# Altium schematic symbol library TSAL4400.SchLib: 1 symbol
Pins are listed as number, name and electrical type; pins without a type are passive.

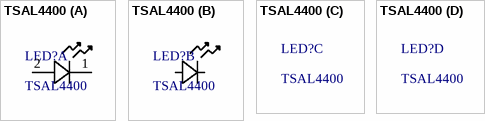
[diagram p0: symbol TSAL4400]

## TSAL4400
designator LED?
Description; Manufacturer_Name: Vishay Semiconductors; Type: LED Indication; Copyright: Copyright (C) 2025 Ultra Librarian. All rights reserved.; Manufacturer_Part_Number: TSAL4400
footprint LED_RADIAL_TSAL4400
part A pins: 1 CAHTODE, 2 ANODE